# Altium footprint library Gyro Header.PcbLib: 1 footprints
Each footprint in its own frame and in the unit in brackets; x right, y up, seen from the top. Pads: shape width x height; smd on the part's side, far side on the other; paste and mask are expansions set on the pad; w line width, h text height; cw(c..) or ccw(c..) is an arc to the next point about the centre after c.
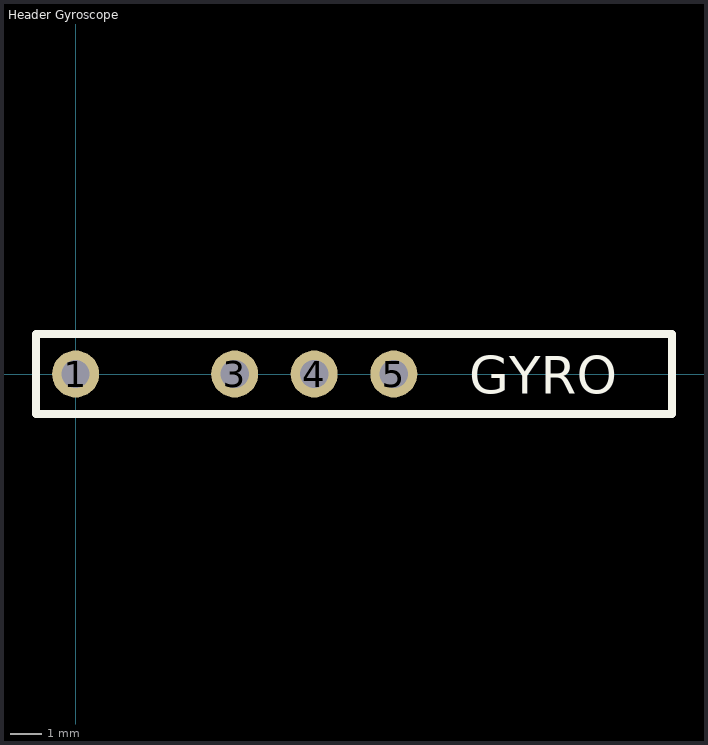
[diagram p0: the footprint, top view; thin cyan lines are the x and y axes]

## Header Gyroscope [mm]
pads (4):
  round 1.5 hole 0.9: 1(0,0) 3(5.08,0) 4(7.62,0) 5(10.16,0)
Top Overlay:
  lines w0.254: -1.27,-1.27 19.05,-1.27 19.05,1.27 -0.635,1.27 -1.27,1.27 -1.27,-1.27
  text "GYRO" at 12.573,-0.635 h1.2